# Altium footprint library TSSOP5.PcbLib: 1 footprints
Each footprint in its own frame and in the unit in brackets; x right, y up, seen from the top. Pads: shape width x height; smd on the part's side, far side on the other; paste and mask are expansions set on the pad; w line width, h text height; cw(c..) or ccw(c..) is an arc to the next point about the centre after c.
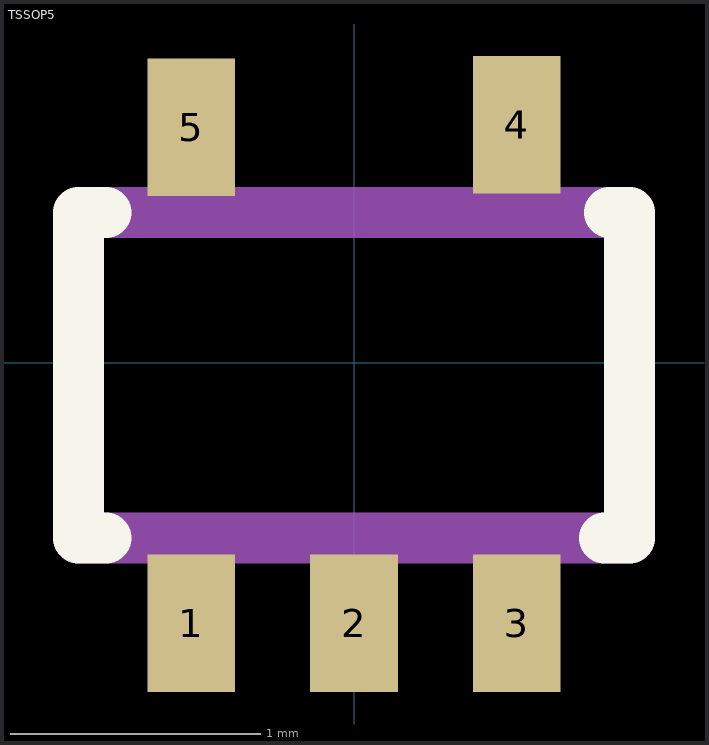
[diagram p0: the footprint, top view; thin cyan lines are the x and y axes]

## TSSOP5 [mm]
pads (5):
  rect 0.35x0.55 smd: 1(-0.65,-1.04) 2(0,-1.04) 3(0.65,-1.04) 4(0.65,0.95) 5(-0.65,0.94)
Top Overlay:
  lines w0.203: -0.99,-0.7 -1.1,-0.7 -1.1,0.6 -0.99,0.6 ; 1,-0.7 1.1,-0.7 1.1,0.6 1.02,0.6
Mechanical 13:
  lines w0.127: -1.1,-0.7 -1.1,0.6 ; 1.1,-0.7 1.1,0.6
  lines w0.203: -1.1,-0.7 1.1,-0.7 ; -1.1,0.6 1.1,0.6